# Altium footprint library MC7905BD2TR4G.PcbLib: 3 footprints
Each footprint in its own frame and in the unit in brackets; x right, y up, seen from the top. Pads: shape width x height; smd on the part's side, far side on the other; paste and mask are expansions set on the pad; w line width, h text height; cw(c..) or ccw(c..) is an arc to the next point about the centre after c.
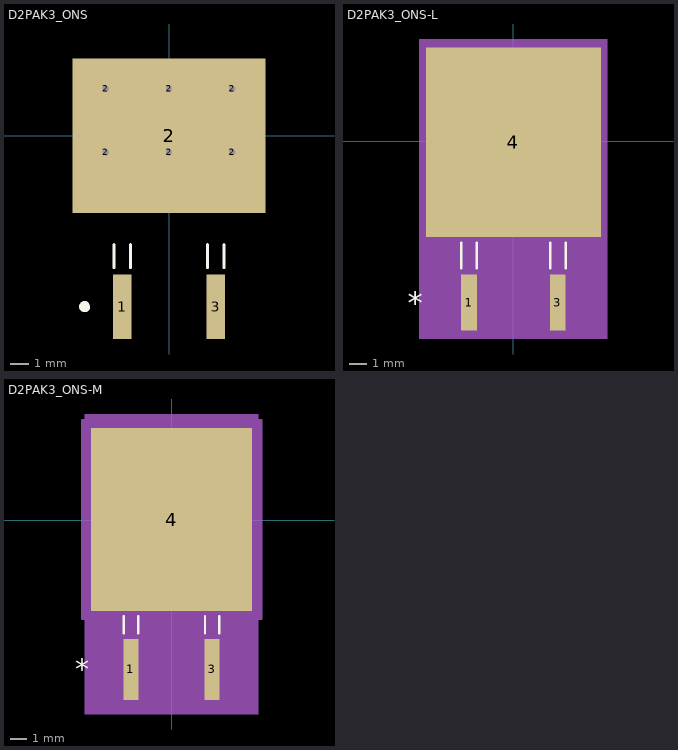
[diagram p0: the footprints below, top view; thin cyan lines are the x and y axes]

## D2PAK3_ONS [mm]
pads (9):
  rect 1.016x3.505 smd paste+0 mask+0: 1(-2.54,-9.271) 3(2.54,-9.271)
  round 0.65 hole 0.35 mask+0.102: 2(-3.429,-0.889) 2(-3.429,2.54) 2(0,-0.889) 2(0,2.54) 2(3.429,-0.889) 2(3.429,2.54)
  rect 10.49x8.38 smd paste+0 mask+0: 2(0,0)
Top Overlay:
  lines w0.152: -2.984,-7.163 -2.984,-5.895 ; -2.095,-7.163 -2.095,-5.895 ; 2.095,-7.163 2.095,-5.895 ; 2.984,-7.163 2.984,-5.895
  lines w0.5: -4.55,-9.226 ccw(c-4.572,-9.271) -4.522,-9.271

## D2PAK3_ONS-L [mil]
pads (3):
  rect 35x126 smd paste+0 mask+0: 1(-100,-363) 3(100,-363)
  rect 393x426 smd paste+0 mask+0: 4(0,-2)
Top Overlay:
  lines w6: -117.5,-286 -117.5,-229 ; -82.5,-286 -82.5,-229 ; 82.5,-286 82.5,-229 ; 117.5,-286 117.5,-229
  text "*" at -237.5,-388 h50
Mechanical 5:
  region: -211.5,230 211.5,230 211.5,-445 -211.5,-445
Mechanical 13:
  lines w1: -17.5,-205 -17.5,-238 17.5,-238 17.5,-205 ; -196.5,-205 196.5,-205 196.5,205 -196.5,205 -196.5,-205 ; -117.5,-420 -117.5,-205 -82.5,-205 -82.5,-420 -117.5,-420 ; 82.5,-420 82.5,-205 117.5,-205 117.5,-420 82.5,-420
  text "*" at -112.5,-220 h50
Mechanical 15:
  region: -121.5,-219 -200.5,-219 -200.5,215 200.5,215 200.5,-219 121.5,-219 121.5,-430 78.5,-430 78.5,-304 -78.5,-304 -78.5,-430 -121.5,-430
  lines w6: -200.5,-219 -200.5,215 200.5,215 200.5,-219 121.5,-219 121.5,-430 78.5,-430 78.5,-304 -78.5,-304 -78.5,-430 -121.5,-430 -121.5,-219 -200.5,-219
3D body "D2PAK3_ONS.step": height 190.12, standoff -2.01, extent -196.5,-320.98 196.5,205.12

## D2PAK3_ONS-M [mil]
pads (3):
  rect 37x150 smd paste+0 mask+0: 1(-100,-367) 3(100,-367)
  rect 397x450 smd paste+0 mask+0: 4(0,2)
Top Overlay:
  lines w6: -117.5,-278 -117.5,-236.1 ; -82.5,-278 -82.5,-236.1 ; 82.5,-278 82.5,-236.1 ; 117.5,-278 117.5,-236.1
  text "*" at -237.5,-392 h50
Mechanical 5:
  region: -213.5,262 213.5,262 213.5,-477 -213.5,-477
Mechanical 13:
  lines w1: -17.5,-205 -17.5,-238 17.5,-238 17.5,-205 ; -196.5,-205 196.5,-205 196.5,205 -196.5,205 -196.5,-205 ; -117.5,-420 -117.5,-205 -82.5,-205 -82.5,-420 -117.5,-420 ; 82.5,-420 82.5,-205 117.5,-205 117.5,-420 82.5,-420
  text "*" at -112.5,-220 h50
Mechanical 15:
  region: -137.5,-243 -220.5,-243 -220.5,247 220.5,247 220.5,-243 137.5,-243 137.5,-462 62.5,-462 62.5,-312 -62.5,-312 -62.5,-462 -137.5,-462
  lines w6: -220.5,-243 -220.5,247 220.5,247 220.5,-243 137.5,-243 137.5,-462 62.5,-462 62.5,-312 -62.5,-312 -62.5,-462 -137.5,-462 -137.5,-243 -220.5,-243
3D body "D2PAK3_ONS.step": height 190.12, standoff -2.01, extent -196.5,-320.98 196.5,205.12